# EAGLE library part SWITCH,SPDT,DUAL_SUPPLY (library QuantumOptics)
SPDT with dual supplies, such as ADG5419.
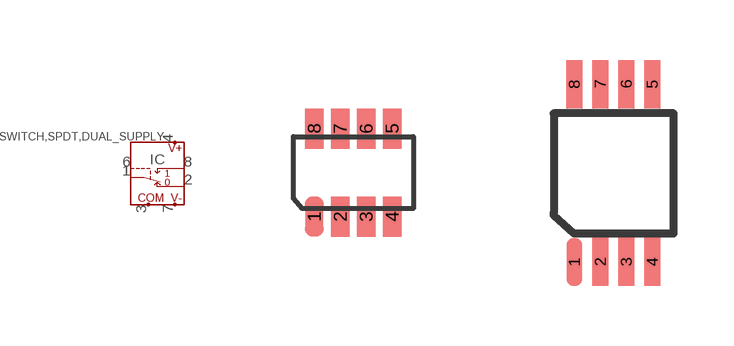
[diagram p163: symbol with the pads of SOT23-8; footprints SOT23-8, MSOP8]

Designator prefix IC

## SWITCH,SPDT,DUAL_SUPPLY-SOT23-8  [SOT23-8]
1  C
2  NC
3  COM  in
4  V+  in
6  LOGIC  in
7  V-  in
8  NO

## SWITCH,SPDT,DUAL_SUPPLY-MSOP8  [MSOP8]
Pads as for SOT23-8

## Footprint SOT23-8 (pad centres in mm)
SOT23-8, based on TI's DCN(R-PDSO-G8) device.
smd 0.47 x 1: 1 -0.975,-1.1; 2 -0.325,-1.1; 3 0.325,-1.1; 4 0.975,-1.1; 5 0.975,1.1; 6 0.325,1.1; 7 -0.325,1.1; 8 -0.975,1.1

## Footprint MSOP8 (pad centres in mm)
MSOP-8, A.K.A. RM-8. Use 0.025" grid.
smd 0.4 x 1.2: 1 -0.65,-1.905; 2 0,-1.905; 3 0.65,-1.905; 4 1.3,-1.905; 5 1.3,2.54; 6 0.65,2.54; 7 0,2.54; 8 -0.65,2.54